# Altium footprint library Optoelectronika.PcbLib: 6 footprints
Each footprint in its own frame and in the unit in brackets; x right, y up, seen from the top. Pads: shape width x height; smd on the part's side, far side on the other; paste and mask are expansions set on the pad; w line width, h text height; cw(c..) or ccw(c..) is an arc to the next point about the centre after c.
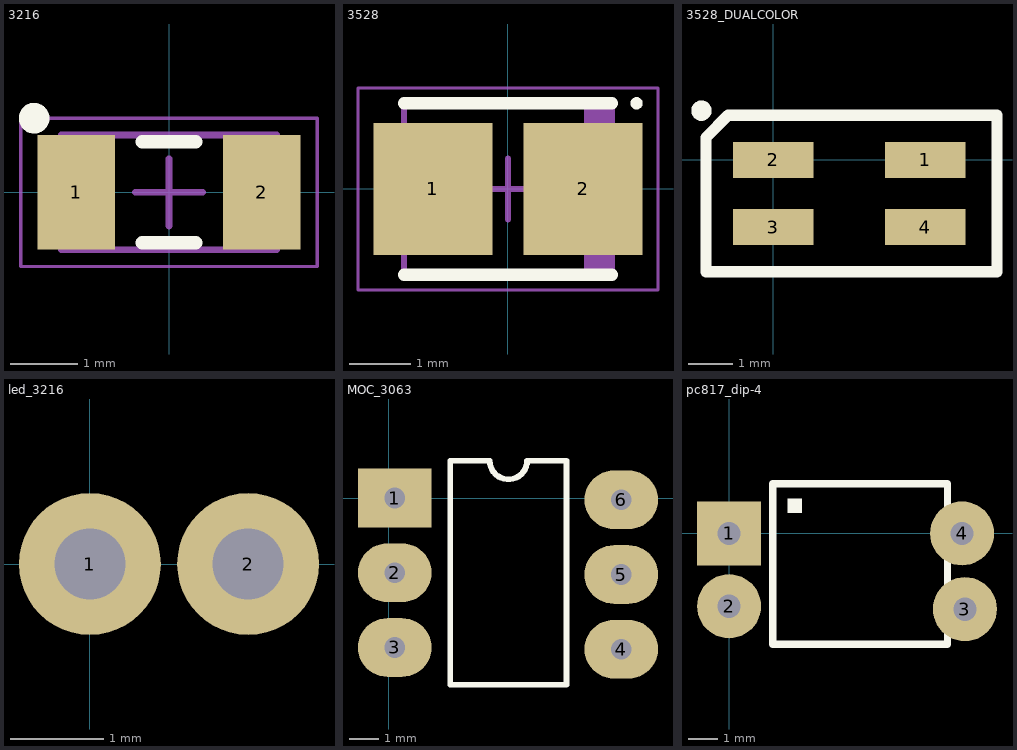
[diagram p0: the footprints below, top view; thin cyan lines are the x and y axes]

## 3216 [mm]
height 2
pads (2):
  rect 1.15x1.7 smd: 1(-1.375,0) 2(1.375,0)
Top Overlay:
  circle w0.254: c-2,1.1 r0.1
  lines w0.2: -0.4,-0.75 0.4,-0.75 ; -0.4,0.75 0.4,0.75
Top Assy:
  lines w0.1: -1.6,-0.85 1.6,-0.85 1.6,0.85 -1.6,0.85 -1.6,-0.85
Top ConturComponent:
  lines w0.05: -2.2,-1.1 2.2,-1.1 2.2,1.1 -2.2,1.1 -2.2,-1.1
  lines w0.1: -0.5,0 0.5,0 ; 0,-0.5 0,0.5
3D body: height 2, standoff 0, extent 1,-0.85 1.6,0.85
3D body: height 2, standoff 0, extent -1.6,-0.85 -1,0.85
3D body: height 2, standoff 0, extent -1,-0.85 1,0.85

## 3528 [mm]
height 2
pads (2):
  rect 1.95x2.15 smd: 1(-1.225,0) 2(1.225,0)
Top Overlay:
  circle w0.1: c2.1,1.4 r0.05
  lines w0.2: -1.7,-1.4 1.7,-1.4 ; -1.7,1.4 1.7,1.4
Top Assy:
  rectangle: 1.243,-1.4 1.7,1.4
  lines w0.1: -1.7,-1.4 -1.7,1.4 1.7,1.4 1.7,-1.4 -1.7,-1.4
Top ConturComponent:
  lines w0.05: -2.45,-1.65 -2.45,1.65 2.45,1.65 2.45,-1.65 -2.45,-1.65
  lines w0.1: -0.5,0 0.5,0 ; 0,-0.5 0,0.5
3D body "3528.SLDPRT": height 1.9, standoff 0, extent -1.75,-1.4 1.75,1.4

## 3528_DUALCOLOR [mm]
pads (4):
  rect 1.8x0.8 smd: 1(3.4,0) 2(0,0) 3(0,-1.5) 4(3.4,-1.5)
Top Overlay:
  circle w0.254: c-1.6,1.1 r0.1
  lines w0.254: -1.5,-2.5 5,-2.5 5,1 -1,1 -1.5,0.5 -1.5,-2.5
3D body "3528_DualColor.STEP": height 1.9, standoff 0, extent -0.05,-2.2 3.45,0.6

## led_3216 [mil]
pads (2):
  round 60 hole 30: 1(0,0) 2(66.93,0)

## MOC_3063 [mm] "Dip-6"
pads (6):
  rect 2.5x2 hole 0.7: 1(0.2,0)
  oval 2.5x2 hole 0.7: 2(0.2,-2.54) 3(0.2,-5.08) 4(7.9,-5.14) 5(7.9,-2.6) 6(7.9,-0.06)
Top Overlay:
  lines w0.2: 2.085,-6.35 2.085,1.27 3.43,1.27 ccw(c4.065,1.27) 4.7,1.27 6.045,1.27 6.045,-6.35 2.085,-6.35
3D body "MOC-3063-DIP6.SLDPRT": height 5.3, standoff -2, extent 0.03,-6.22 7.9,0.9

## pc817_dip-4 [mm] "оптопара dip-4"
pads (4):
  rect 2.2x2.2 hole 0.8: 1(0,0)
  round 2.2 hole 0.8: 2(0,-2.5) 3(8.1,-2.6) 4(8,0)
Top Overlay:
  rectangle: 2,0.7 2.5,1.2
  lines w0.254: 1.5,-3.8 1.5,1.7 7.5,1.7 7.5,-3.8 1.5,-3.8
3D body "PC-817 DIP-4.SLDPRT": height 4.3, standoff -2.7, extent 0.06,-3.595 7.94,0.995